# EAGLE library part DSPIC30F2010 (library Mes_uC)
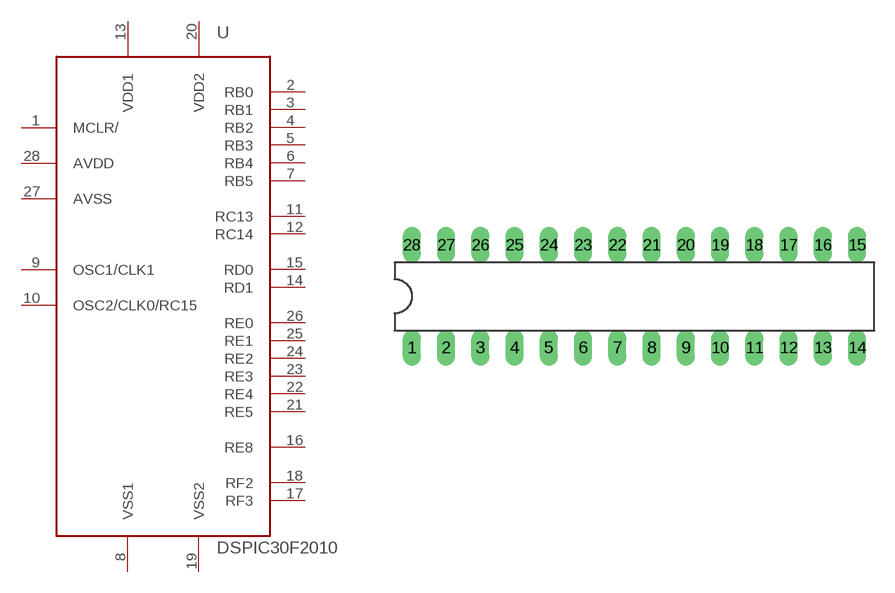
[diagram p0: symbol with the pads of DIP28; footprint DIP28]

Designator prefix U

## DSPIC30F2010  [DIP28]
1  MCLR/  in
2  RB0
3  RB1
4  RB2
5  RB3
6  RB4
7  RB5
8  VSS1  pwr
9  OSC1/CLK1
10  OSC2/CLK0/RC15
11  RC13
12  RC14
13  VDD1  pwr
14  RD1
15  RD0
16  RE8
17  RF3
18  RF2
19  VSS2  pwr
20  VDD2  pwr
21  RE5
22  RE4
23  RE3
24  RE2
25  RE1
26  RE0
27  AVSS  pwr
28  AVDD  pwr

## Footprint DIP28 (pad centres in mm)
drill 0.813 long: 1 -13.97,-3.81; 2 -11.43,-3.81; 3 -8.89,-3.81; 4 -6.35,-3.81; 5 -3.81,-3.81; 6 -1.27,-3.81; 7 1.27,-3.81; 8 3.81,-3.81; 9 6.35,-3.81; 10 8.89,-3.81; 11 11.43,-3.81; 12 13.97,-3.81; 13 16.51,-3.81; 14 19.05,-3.81; 15 19.05,3.81; 16 16.51,3.81; 17 13.97,3.81; 18 11.43,3.81; 19 8.89,3.81; 20 6.35,3.81; 21 3.81,3.81; 22 1.27,3.81; 23 -1.27,3.81; 24 -3.81,3.81; 25 -6.35,3.81; 26 -8.89,3.81; 27 -11.43,3.81; 28 -13.97,3.81